# Altium footprint library Transistor_Power_Module.PcbLib: 14 footprints
Each footprint in its own frame and in the unit in brackets; x right, y up, seen from the top. Pads: shape width x height; smd on the part's side, far side on the other; paste and mask are expansions set on the pad; w line width, h text height; cw(c..) or ccw(c..) is an arc to the next point about the centre after c.
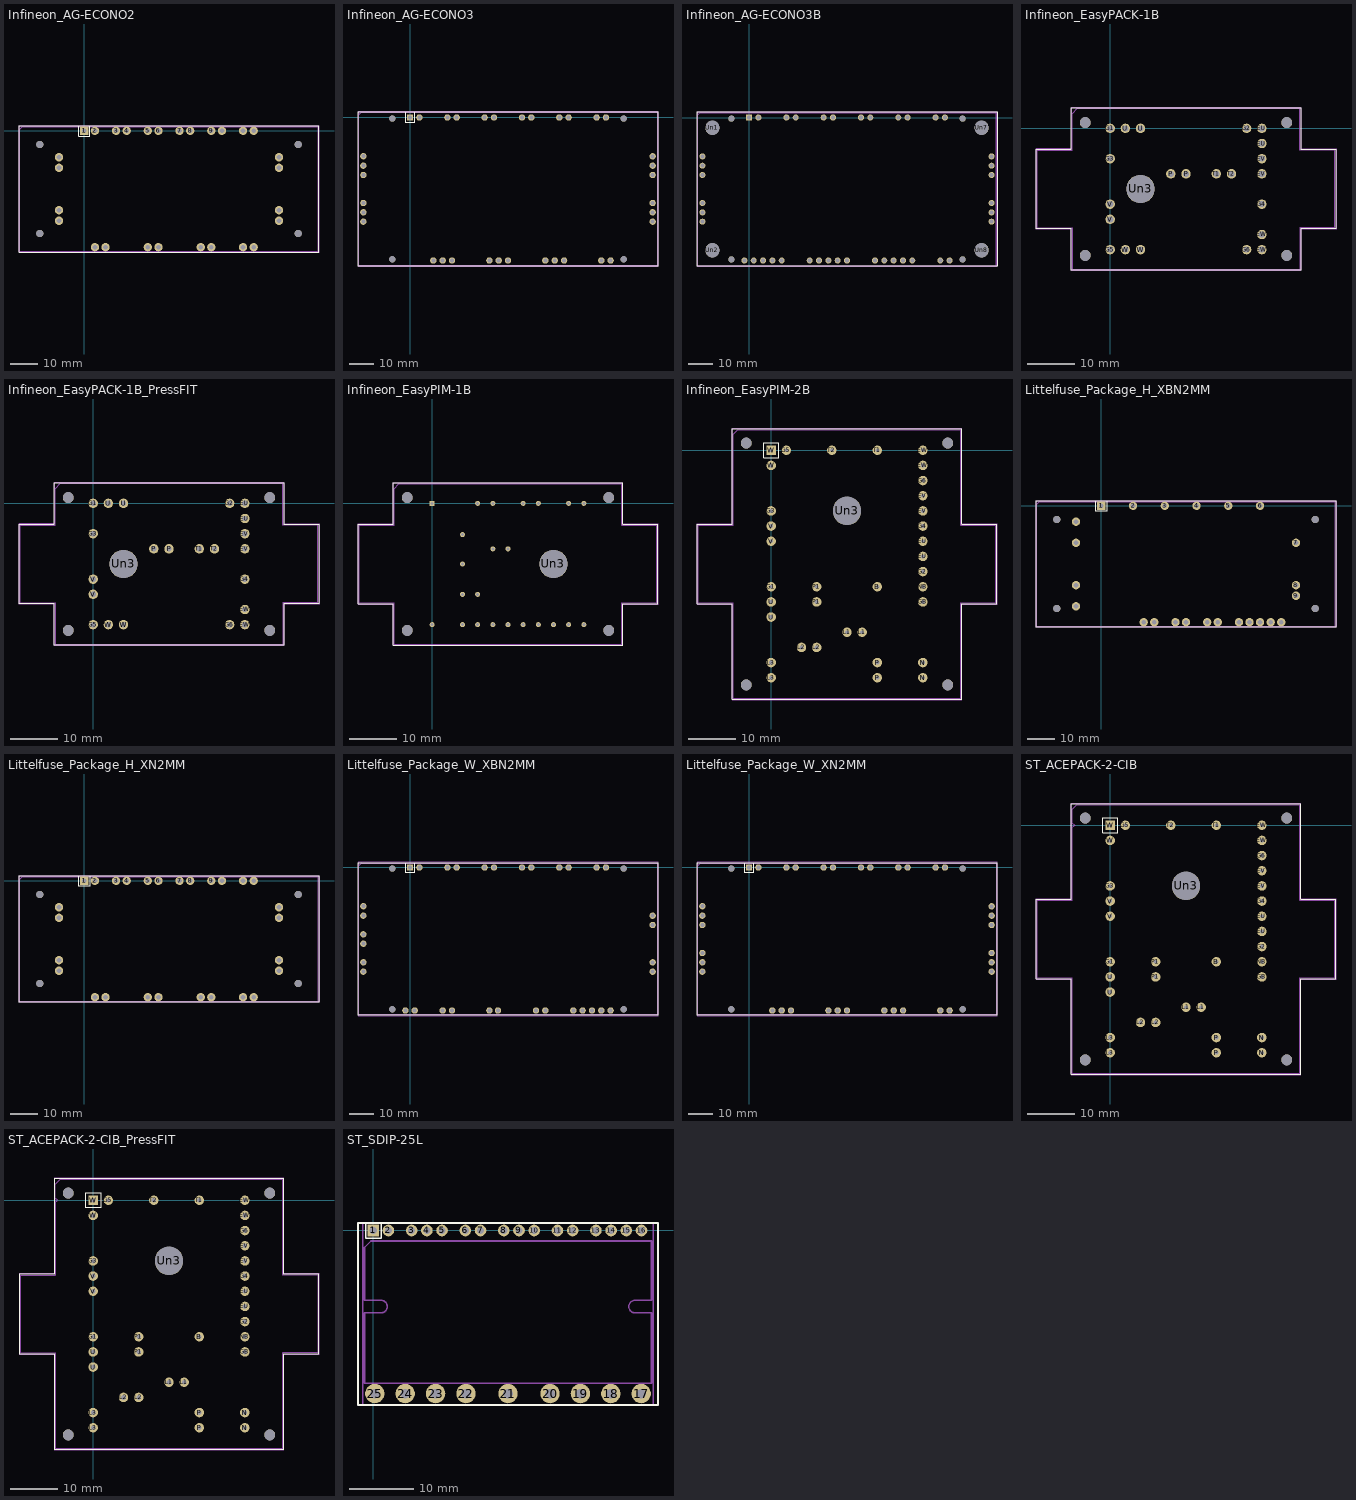
[diagram p0: the footprints below, top view; thin cyan lines are the x and y axes]

## Infineon_AG-ECONO2 [mm]
pads (32):
  rect 3x3 hole 1.7: 1(0,0)
  round 3 hole 1.7: 2(3.81,0) 3(11.43,0) 4(15.24,0) 5(22.86,0) 6(26.67,0) 7(34.29,0) 8(38.1,0) 9(45.72,0) 10(49.53,0) 11(57.15,0) 12(60.96,0) 13(70.08,-9.52) 14(70.08,-13.33) 15(70.08,-28.57) 16(70.08,-32.38) 17(60.96,-41.9) 18(57.15,-41.9) 19(45.72,-41.9) 20(41.91,-41.9) 21(26.67,-41.9) 22(22.86,-41.9) 23(7.62,-41.9) 24(3.81,-41.9) 25(-9.12,-32.38) 26(-9.12,-28.57) 27(-9.12,-13.33) 28(-9.12,-9.52)
  round 2.6 hole 2.6: Un1(-16.02,-4.95) Un2(-16.02,-36.95) Un3(76.98,-4.95) Un4(76.98,-36.95)
F.SilkS:
  lines w0.254: -2,1.75 -2,-2 2,-2 2,-1.75 2,1.75 ; -23.47,-43.65 84.43,-43.65 84.43,1.75 -23.47,1.75 -23.47,-43.65
B.SilkS:
  drawing of 320 lines, arcs and shapes, not listed
F.Fab:
  lines w0.254: -23.27,-43.45 84.23,-43.45 84.23,1.55 -22.27,1.55 -23.27,0.55 -23.27,-43.45
  text "'.Designator'" at 26.053,-20.14 h1
F.CrtYd:
  lines w0.254: -23.52,-43.7 84.48,-43.7 84.48,1.8 -23.52,1.8 -23.52,-43.7

## Infineon_AG-ECONO3 [mm]
pads (39):
  rect 2.6x2.6 hole 1.6: 1(0,0)
  round 2.6 hole 1.6: 2(3.81,0) 3(15.24,0) 4(19.05,0) 5(30.48,0) 6(34.29,0) 7(45.72,0) 8(49.53,0) 9(60.96,0) 10(64.77,0) 11(76.2,0) 12(80.01,0) 13(99.07,-15.86) 14(99.07,-19.67) 15(99.07,-23.48) 16(99.07,-34.91) 17(99.07,-38.72) 18(99.07,-42.53) 19(81.92,-58.4) 20(78.11,-58.4) 21(62.91,-58.4) 22(59.11,-58.4) 23(55.25,-58.4) 24(40.01,-58.4) 25(36.21,-58.4) 26(32.39,-58.4) 27(17.15,-58.4) 28(13.34,-58.4) 29(9.51,-58.4) 30(-19.05,-42.53) 31(-19.05,-38.72) 32(-19.05,-34.91) 33(-19.05,-23.48) 34(-19.05,-19.67) 35(-19.05,-15.8)
  round 2.5 hole 2.5: Un1(-7.24,-0.45) Un2(-7.24,-57.91) Un3(87.26,-0.45) Un4(87.26,-57.91)
F.SilkS:
  lines w0.254: -2,2 -2,-2 2,-2 2,2 ; -21.19,-60.65 -21.19,2.25 101.21,2.25 101.21,-60.65 -21.19,-60.65
F.Fab:
  lines w0.254: -20.99,-60.45 -20.99,1.05 -19.99,2.05 101.01,2.05 101.01,-60.45 -20.99,-60.45
  text "'.Designator'" at 35.963,-31.34 h1
F.CrtYd:
  lines w0.254: -21.24,-60.7 -21.24,2.3 101.26,2.3 101.26,-60.7 -21.24,-60.7

## Infineon_AG-ECONO3B [mm]
pads (49):
  rect 2.46x2.46 hole 1.64: 1(0,0)
  round 2.46 hole 1.64: 2(3.81,0) 3(15.24,0) 4(19.05,0) 5(30.48,0) 6(34.29,0) 7(45.72,0) 8(49.53,0) 9(60.96,0) 10(64.77,0) 11(76.2,0) 12(80.01,0) 13(99.06,-15.875) 14(99.06,-19.685) 15(99.06,-23.495) 16(99.06,-34.925) 17(99.06,-38.735) 18(99.06,-42.545) 19(81.915,-58.42) 20(78.105,-58.42) 21(66.675,-58.42) 22(62.865,-58.42) 23(59.055,-58.42) 24(55.245,-58.42) 25(51.435,-58.42) 26(40.005,-58.42) 27(36.195,-58.42) 28(32.385,-58.42) 29(28.575,-58.42) 30(24.765,-58.42) 31(13.335,-58.42) 32(9.525,-58.42) 33(5.715,-58.42) 34(1.905,-58.42) 35(-1.905,-58.42) 36(-19.05,-42.545) 37(-19.05,-38.735) 38(-19.05,-34.925) 39(-19.05,-23.495) 40(-19.05,-19.685) 41(-19.05,-15.875)
  round 5.8 hole 5.8: Un1(-14.995,-4.21) Un2(-14.995,-54.21) Un7(95.005,-4.21) Un8(95.005,-54.21)
  round 2.5 hole 2.5: Un3(-7.245,-0.46) Un4(-7.245,-57.96) Un5(87.255,-0.46) Un6(87.255,-57.96)
F.SilkS:
  lines w0.254: -21.266,-60.712 -21.266,2.317 101.276,2.292 101.276,-60.712 -21.266,-60.712
F.Fab:
  lines w0.254: -20.995,-60.46 -20.995,1.04 -19.995,2.04 101.005,2.04 101.005,-60.46 -20.995,-60.46
  text "'.Designator'" at 32.315,-30.435 h1
F.CrtYd:
  lines w0.254: -21.25,-60.7 -21.25,2.3 101.26,2.28 101.26,-60.7 -21.25,-60.7

## Infineon_EasyPACK-1B [mm]
pads (27):
  round 2 hole 1.3: EU(32,-3.2) EU(32,0) EV(32,-9.6) EV(32,-6.4) EW(32,-25.6) EW(32,-22.4) G1(0,0) G2(28.8,0) G3(0,-6.4) G4(32,-16) G5(0,-25.6) G6(28.8,-25.6) P(12.8,-9.6) P(16,-9.6) T1(22.4,-9.6) T2(25.6,-9.6) U(3.2,0) U(6.4,0) V(0,-19.2) V(0,-16) W(3.2,-25.6) W(6.4,-25.6)
  round 2.3 hole 2.3: Un1(-5.25,1.2) Un2(-5.25,-26.8) Un4(37.25,1.2) Un5(37.25,-26.8)
  round 6 hole 6: Un3(6.4,-12.8)
F.SilkS:
  lines w0.254: -15.6,-21.2 -15.6,-4.4 -8.2,-4.4 -8.2,4.3 40.2,4.3 40.2,-4.4 47.6,-4.4 47.6,-21.2 40.2,-21.2 40.2,-29.9 -8.2,-29.9 -8.2,-21.2 -15.6,-21.2
B.SilkS:
  circle w0.254: c6.4,-12.8 r4
F.Fab:
  lines w0.254: -15.4,-21 -15.4,-4.6 -8,-4.6 -8,3.1 -7,4.1 40,4.1 40,-4.6 47.4,-4.6 47.4,-21 40,-21 40,-29.7 -8,-29.7 -8,-21 -15.4,-21
  text "'.Designator'" at 11.953,-14.94 h1
F.CrtYd:
  lines w0.254: -15.65,-21.25 -15.65,-4.35 -8.25,-4.35 -8.25,4.35 40.25,4.35 40.25,-4.35 47.65,-4.35 47.65,-21.25 40.25,-21.25 40.25,-29.95 -8.25,-29.95 -8.25,-21.25 -15.65,-21.25

## Infineon_EasyPACK-1B_PressFIT [mm]
pads (27):
  round 2 hole 1.15: EU(32,-3.2) EU(32,0) EV(32,-9.6) EV(32,-6.4) EW(32,-25.6) EW(32,-22.4) G1(0,0) G2(28.8,0) G3(0,-6.4) G4(32,-16) G5(0,-25.6) G6(28.8,-25.6) P(12.8,-9.6) P(16,-9.6) T1(22.4,-9.6) T2(25.6,-9.6) U(3.2,0) U(6.4,0) V(0,-19.2) V(0,-16) W(3.2,-25.6) W(6.4,-25.6)
  round 2.3 hole 2.3: Un1(-5.25,1.2) Un2(-5.25,-26.8) Un4(37.25,1.2) Un5(37.25,-26.8)
  round 6 hole 6: Un3(6.4,-12.8)
F.SilkS:
  lines w0.254: -15.6,-21.2 -15.6,-4.4 -8.2,-4.4 -8.2,4.3 40.2,4.3 40.2,-4.4 47.6,-4.4 47.6,-21.2 40.2,-21.2 40.2,-29.9 -8.2,-29.9 -8.2,-21.2 -15.6,-21.2
B.SilkS:
  circle w0.254: c6.4,-12.8 r4
F.Fab:
  lines w0.254: -15.4,-21 -15.4,-4.6 -8,-4.6 -8,3.1 -7,4.1 40,4.1 40,-4.6 47.4,-4.6 47.4,-21 40,-21 40,-29.7 -8,-29.7 -8,-21 -15.4,-21
  text "'.Designator'" at 11.953,-14.94 h1
F.CrtYd:
  lines w0.254: -15.65,-21.25 -15.65,-4.35 -8.25,-4.35 -8.25,4.35 40.25,4.35 40.25,-4.35 47.65,-4.35 47.65,-21.25 40.25,-21.25 40.25,-29.95 -8.25,-29.95 -8.25,-21.25 -15.65,-21.25

## Infineon_EasyPIM-1B [mm]
pads (28):
  round 1.06 hole 0.66: B(0,-25.6) EU(32,-25.6) EV(25.6,-25.6) EW(19.2,-25.6) G1(28.8,0) G2(28.8,-25.6) G3(19.2,0) G4(22.4,-25.6) G5(9.6,0) G6(16,-25.6) GB(9.6,-25.6) L2(6.4,-6.6) L3(6.4,-12.8) N(12.8,-25.6) NB(6.4,-25.6) P(6.4,-19.2) P1(9.6,-19.2) T1(12.8,-9.6) T2(16,-9.6) U(32,0) V(22.4,0) W(12.8,0)
  rect 1.06x1.06 hole 0.66: L1(0,0)
  round 2.3 hole 2.3: Un1(-5.25,1.2) Un2(-5.25,-26.8) Un4(37.25,1.2) Un5(37.25,-26.8)
  round 6 hole 6: Un3(25.6,-12.8)
F.SilkS:
  lines w0.254: -15.6,-21.2 -15.6,-4.4 -8.2,-4.4 -8.2,4.3 40.2,4.3 40.2,-4.4 47.6,-4.4 47.6,-21.2 40.2,-21.2 40.2,-29.9 -8.2,-29.9 -8.2,-21.2 -15.6,-21.2
B.SilkS:
  circle w0.254: c25.6,-12.8 r4
F.Fab:
  lines w0.254: -15.4,-21 -15.4,-4.6 -8,-4.6 -8,3.1 -7,4.1 40,4.1 40,-4.6 47.4,-4.6 47.4,-21 40,-21 40,-29.7 -8,-29.7 -8,-21 -15.4,-21
  text "'.Designator'" at 11.953,-12.34 h1
F.CrtYd:
  lines w0.254: -15.65,-21.25 -15.65,-4.35 -8.25,-4.35 -8.25,4.35 40.25,4.35 40.25,-4.35 47.65,-4.35 47.65,-21.25 40.25,-21.25 40.25,-29.95 -8.25,-29.95 -8.25,-21.25 -15.65,-21.25

## Infineon_EasyPIM-2B [mm]
pads (40):
  round 2 hole 0.84: B(22.4,-28.8) EU(32,-22.4) EU(32,-19.2) EV(32,-12.8) EV(32,-9.6) EW(32,-3.2) EW(32,0) G1(0,-28.8) G2(32,-25.6) G3(0,-12.8) G4(32,-16) G5(3.2,0) G6(32,-6.4) GB(32,-32) L1(16,-38.4) L1(19.2,-38.4) L2(6.4,-41.6) L2(9.6,-41.6) L3(0,-48) L3(0,-44.8) N(32,-48) N(32,-44.8) NB(32,-28.8) P(22.4,-48) P(22.4,-44.8) P1(9.6,-32) P1(9.6,-28.8) T1(22.4,0) T2(12.8,0) U(0,-35.2) U(0,-32) V(0,-19.2) V(0,-16) W(0,-3.2)
  round 2.3 hole 2.3: Un1(-5.25,1.5) Un2(-5.25,-49.5) Un4(37.25,1.5) Un5(37.25,-49.5)
  round 6 hole 6: Un3(16,-12.8)
  rect 2x2 hole 0.84: W(0,0)
F.SilkS:
  lines w0.254: -15.6,-32.4 -15.6,-15.6 -8.2,-15.6 -8.2,4.55 40.2,4.55 40.2,-15.6 47.6,-15.6 47.6,-32.4 40.2,-32.4 40.2,-52.55 -8.2,-52.55 -8.2,-32.4 -15.6,-32.4 ; -1.6,-1.6 -1.6,1.6 1.6,1.6 1.6,-1.6 -1.6,-1.6
B.SilkS:
  circle w0.254: c16,-12.8 r4
  lines w0.254: -1.6,-1.5 -1.6,-1.6 -1,-1.6 ; -1.6,-1 -1.6,-0.5 ; -1.6,0 -1.6,0.5 ; -1.6,1 -1.6,1.6 -1.5,1.6 ; -1,1.6 -0.5,1.6 ; -0.5,-1.6 0,-1.6 ; 0,1.6 0.5,1.6 ; 0.5,-1.6 1,-1.6 ; 1,1.6 1.6,1.6 1.6,1.5 ; 1.5,-1.6 1.6,-1.6 1.6,-1 ; 1.6,-0.5 1.6,0 ; 1.6,0.5 1.6,1
F.Fab:
  lines w0.254: -15.4,-32.2 -15.4,-15.8 -8,-15.8 -8,3.35 -7,4.35 40,4.35 40,-15.8 47.4,-15.8 47.4,-32.2 40,-32.2 40,-52.35 -8,-52.35 -8,-32.2 -15.4,-32.2
  text "'.Designator'" at 11.953,-22.84 h1
F.CrtYd:
  lines w0.254: -15.65,-32.45 -15.65,-15.55 -8.25,-15.55 -8.25,4.6 40.25,4.6 40.25,-15.55 47.65,-15.55 47.65,-32.45 40.25,-32.45 40.25,-52.6 -8.25,-52.6 -8.25,-32.45 -15.65,-32.45
3D body "Infineon_EasyPIM-2B.step": height 12.5, standoff -3.5, extent -15.4,-52.35 47.4,4.35

## Littelfuse_Package_H_XBN2MM [mm]
pads (28):
  rect 3x3 hole 1.7: 1(0,0)
  round 3 hole 1.7: 2(11.43,0) 3(22.86,0) 4(34.29,0) 5(45.72,0) 6(57.15,0) 7(70.08,-13.33) 8(70.08,-28.57) 9(70.08,-32.38) 10(64.77,-41.9) 11(60.96,-41.9) 12(57.15,-41.9) 13(53.34,-41.9) 14(49.53,-41.9) 15(41.91,-41.9) 16(38.1,-41.9) 17(30.48,-41.9) 18(26.67,-41.9) 19(19.05,-41.9) 20(15.24,-41.9) 21(-9.12,-36.19) 22(-9.12,-28.57) 23(-9.12,-13.33) 24(-9.12,-5.71)
  round 2.6 hole 2.6: Un1(-16.02,-4.95) Un2(-16.02,-36.95) Un3(76.98,-4.95) Un4(76.98,-36.95)
F.SilkS:
  lines w0.254: -2,1.75 -2,-2 2,-2 2,-1.75 2,1.75 ; -23.47,-43.65 -23.47,1.75 84.43,1.75 84.43,-43.65 -23.47,-43.65
B.SilkS:
  drawing of 320 lines, arcs and shapes, not listed
F.Fab:
  lines w0.254: -23.27,-43.45 -23.27,0.55 -22.27,1.55 84.23,1.55 84.23,-43.45 -23.27,-43.45
  text "'.Designator'" at 24.453,-19.89 h1
F.CrtYd:
  lines w0.254: -23.52,-43.7 -23.52,1.8 84.48,1.8 84.48,-43.7 -23.52,-43.7

## Littelfuse_Package_H_XN2MM [mm]
pads (32):
  rect 3x3 hole 1.7: 1(0,0)
  round 3 hole 1.7: 2(3.81,0) 3(11.43,0) 4(15.24,0) 5(22.86,0) 6(26.67,0) 7(34.29,0) 8(38.1,0) 9(45.72,0) 10(49.53,0) 11(57.15,0) 12(60.96,0) 13(70.08,-9.52) 14(70.08,-13.33) 15(70.08,-28.57) 16(70.08,-32.38) 17(60.96,-41.9) 18(57.15,-41.9) 19(45.72,-41.9) 20(41.91,-41.9) 21(26.67,-41.9) 22(22.86,-41.9) 23(7.62,-41.9) 24(3.81,-41.9) 25(-9.12,-32.38) 26(-9.12,-28.57) 27(-9.12,-13.33) 28(-9.12,-9.52)
  round 2.6 hole 2.6: Un1(-16.02,-4.95) Un2(-16.02,-36.95) Un3(76.98,-4.95) Un4(76.98,-36.95)
F.SilkS:
  lines w0.254: -2,1.75 -2,-2 2,-2 2,-1.75 2,1.75 ; -23.47,-43.65 -23.47,1.75 84.43,1.75 84.43,-43.65 -23.47,-43.65
B.SilkS:
  drawing of 320 lines, arcs and shapes, not listed
F.Fab:
  lines w0.254: -23.27,-43.45 -23.27,0.55 -22.27,1.55 84.23,1.55 84.23,-43.45 -23.27,-43.45
  text "'.Designator'" at 24.453,-20.34 h1
F.CrtYd:
  lines w0.254: -23.52,-43.7 -23.52,1.8 84.48,1.8 84.48,-43.7 -23.52,-43.7

## Littelfuse_Package_W_XBN2MM [mm]
pads (39):
  rect 2.6x2.6 hole 1.6: 1(0,0)
  round 2.6 hole 1.6: 1(3.81,0) 2(15.24,0) 2(19.05,0) 3(30.48,0) 3(34.29,0) 4(45.72,0) 4(49.53,0) 5(60.96,0) 5(64.77,0) 6(76.2,0) 6(80.01,0) 7(99.07,-23.49) 7(99.07,-19.68) 8(99.07,-38.73) 9(99.07,-42.54) 10(81.92,-58.4) 11(78.11,-58.4) 12(74.3,-58.4) 13(70.49,-58.4) 14(66.68,-58.4) 15(55.25,-58.4) 16(51.44,-58.4) 17(35.9,-58.4) 18(32.39,-58.4) 19(17.15,-58.4) 20(13.34,-58.4) 21(-1.9,-58.4) 21(1.91,-58.4) 22(-19.05,-42.53) 22(-19.05,-38.72) 23(-19.05,-31.11) 23(-19.05,-27.3) 24(-19.05,-19.67) 24(-19.05,-15.8)
  round 2.5 hole 2.5: Un1(-7.24,-0.45) Un2(-7.24,-57.91) Un3(87.26,-0.45) Un4(87.26,-57.91)
F.SilkS:
  lines w0.254: -2.02,1.99 -2.02,-2.01 1.98,-2.01 1.98,1.99 ; -21.19,-60.4 -21.19,2 101.21,2 101.21,-60.4 -21.19,-60.4
F.Fab:
  lines w0.254: -20.99,-60.2 -20.99,0.8 -19.99,1.8 101.01,1.8 101.01,-60.2 -20.99,-60.2
  text "'.Designator'" at 40.853,-28.84 h1
F.CrtYd:
  lines w0.254: -21.24,-60.45 -21.24,2.05 101.26,2.05 101.26,-60.45 -21.24,-60.45

## Littelfuse_Package_W_XN2MM [mm]
pads (39):
  rect 2.6x2.6 hole 1.6: 1(0,0)
  round 2.6 hole 1.6: 2(3.81,0) 3(15.24,0) 4(19.05,0) 5(30.48,0) 6(34.29,0) 7(45.72,0) 8(49.53,0) 9(60.96,0) 10(64.77,0) 11(76.2,0) 12(80.01,0) 13(99.07,-15.86) 14(99.07,-19.67) 15(99.07,-23.48) 16(99.07,-34.91) 17(99.07,-38.72) 18(99.07,-42.53) 19(81.92,-58.4) 20(78.11,-58.4) 21(62.91,-58.4) 22(59.11,-58.4) 23(55.25,-58.4) 24(40.01,-58.4) 25(36.21,-58.4) 26(32.39,-58.4) 27(17.15,-58.4) 28(13.34,-58.4) 29(9.51,-58.4) 30(-19.05,-42.53) 31(-19.05,-38.72) 32(-19.05,-34.91) 33(-19.05,-23.48) 34(-19.05,-19.67) 35(-19.05,-15.8)
  round 2.5 hole 2.5: Un1(-7.24,-0.45) Un2(-7.24,-57.91) Un3(87.26,-0.45) Un4(87.26,-57.91)
F.SilkS:
  lines w0.254: -2,2 -2,-2 2,-2 2,2 ; -21.19,-60.4 -21.19,2 101.21,2 101.21,-60.4 -21.19,-60.4
F.Fab:
  lines w0.254: -20.99,-60.2 -20.99,0.8 -19.99,1.8 101.01,1.8 101.01,-60.2 -20.99,-60.2
  text "'.Designator'" at 40.753,-28.04 h1
F.CrtYd:
  lines w0.254: -21.24,-60.45 -21.24,2.05 101.26,2.05 101.26,-60.45 -21.24,-60.45

## ST_ACEPACK-2-CIB [mm]
pads (40):
  round 2 hole 0.84: B(22.4,-28.8) EU(32,-22.4) EU(32,-19.2) EV(32,-12.8) EV(32,-9.6) EW(32,-3.2) EW(32,0) G1(0,-28.8) G2(32,-25.6) G3(0,-12.8) G4(32,-16) G5(3.2,0) G6(32,-6.4) GB(32,-32) L1(16,-38.4) L1(19.2,-38.4) L2(6.4,-41.6) L2(9.6,-41.6) L3(0,-48) L3(0,-44.8) N(32,-48) N(32,-44.8) NB(32,-28.8) P(22.4,-48) P(22.4,-44.8) P1(9.6,-32) P1(9.6,-28.8) T1(22.4,0) T2(12.8,0) U(0,-35.2) U(0,-32) V(0,-19.2) V(0,-16) W(0,-3.2)
  round 2.3 hole 2.3: Un1(-5.25,1.5) Un2(-5.25,-49.5) Un4(37.25,1.5) Un5(37.25,-49.5)
  round 6 hole 6: Un3(16,-12.8)
  rect 2x2 hole 0.84: W(0,0)
F.SilkS:
  lines w0.254: -15.6,-32.4 -15.6,-15.6 -8.2,-15.6 -8.2,4.55 40.2,4.55 40.2,-15.6 47.6,-15.6 47.6,-32.4 40.2,-32.4 40.2,-52.55 -8.2,-52.55 -8.2,-32.4 -15.6,-32.4 ; -1.6,-1.6 -1.6,1.6 1.6,1.6 1.6,-1.6 -1.6,-1.6
B.SilkS:
  circle w0.254: c16,-12.8 r4
  lines w0.254: -1.6,-1.5 -1.6,-1.6 -1,-1.6 ; -1.6,-1 -1.6,-0.5 ; -1.6,0 -1.6,0.5 ; -1.6,1 -1.6,1.6 -1.5,1.6 ; -1,1.6 -0.5,1.6 ; -0.5,-1.6 0,-1.6 ; 0,1.6 0.5,1.6 ; 0.5,-1.6 1,-1.6 ; 1,1.6 1.6,1.6 1.6,1.5 ; 1.5,-1.6 1.6,-1.6 1.6,-1 ; 1.6,-0.5 1.6,0 ; 1.6,0.5 1.6,1
F.Fab:
  lines w0.254: -8,-0.4 -8,-15.8 -15.4,-15.8 -15.4,-32.2 -8,-32.2 -8,-52.35 40,-52.35 40,-32.2 47.4,-32.2 47.4,-15.8 40,-15.8 40,4.35 -7,4.35 -8,3.35 -8,0.4 ; -8.15,-0.5 -8.15,0.5 -7.5,0 -8.15,-0.5
  text "'.Designator'" at 11.953,-22.84 h1
F.CrtYd:
  lines w0.254: -15.65,-32.45 -15.65,-15.55 -8.25,-15.55 -8.25,4.6 40.25,4.6 40.25,-15.55 47.65,-15.55 47.65,-32.45 40.25,-32.45 40.25,-52.6 -8.25,-52.6 -8.25,-32.45 -15.65,-32.45
3D body "ST_ACEPACK-2-CIB.step": height 12.5, standoff -3.5, extent -15.4,-52.35 47.4,4.35

## ST_ACEPACK-2-CIB_PressFIT [mm]
pads (40):
  round 2 hole 1: B(22.4,-28.8) EU(32,-22.4) EU(32,-19.2) EV(32,-12.8) EV(32,-9.6) EW(32,-3.2) EW(32,0) G1(0,-28.8) G2(32,-25.6) G3(0,-12.8) G4(32,-16) G5(3.2,0) G6(32,-6.4) GB(32,-32) L1(16,-38.4) L1(19.2,-38.4) L2(6.4,-41.6) L2(9.6,-41.6) L3(0,-48) L3(0,-44.8) N(32,-48) N(32,-44.8) NB(32,-28.8) P(22.4,-48) P(22.4,-44.8) P1(9.6,-32) P1(9.6,-28.8) T1(22.4,0) T2(12.8,0) U(0,-35.2) U(0,-32) V(0,-19.2) V(0,-16) W(0,-3.2)
  round 2.3 hole 2.3: Un1(-5.25,1.5) Un2(-5.25,-49.5) Un4(37.25,1.5) Un5(37.25,-49.5)
  round 6 hole 6: Un3(16,-12.8)
  rect 2x2 hole 1: W(0,0)
F.SilkS:
  lines w0.254: -15.6,-32.4 -15.6,-15.6 -8.2,-15.6 -8.2,4.55 40.2,4.55 40.2,-15.6 47.6,-15.6 47.6,-32.4 40.2,-32.4 40.2,-52.55 -8.2,-52.55 -8.2,-32.4 -15.6,-32.4 ; -1.6,-1.6 -1.6,1.6 1.6,1.6 1.6,-1.6 -1.6,-1.6
B.SilkS:
  circle w0.254: c16,-12.8 r4
  lines w0.254: -1.6,-1.5 -1.6,-1.6 -1,-1.6 ; -1.6,-1 -1.6,-0.5 ; -1.6,0 -1.6,0.5 ; -1.6,1 -1.6,1.6 -1.5,1.6 ; -1,1.6 -0.5,1.6 ; -0.5,-1.6 0,-1.6 ; 0,1.6 0.5,1.6 ; 0.5,-1.6 1,-1.6 ; 1,1.6 1.6,1.6 1.6,1.5 ; 1.5,-1.6 1.6,-1.6 1.6,-1 ; 1.6,-0.5 1.6,0 ; 1.6,0.5 1.6,1
F.Fab:
  lines w0.254: -8,-0.4 -8,-15.8 -15.4,-15.8 -15.4,-32.2 -8,-32.2 -8,-52.35 40,-52.35 40,-32.2 47.4,-32.2 47.4,-15.8 40,-15.8 40,4.35 -7,4.35 -8,3.35 -8,0.4 ; -8.15,-0.5 -8.15,0.5 -7.5,0 -8.15,-0.5
  text "'.Designator'" at 11.953,-22.84 h1
F.CrtYd:
  lines w0.254: -15.65,-32.45 -15.65,-15.55 -8.25,-15.55 -8.25,4.6 40.25,4.6 40.25,-15.55 47.65,-15.55 47.65,-32.45 40.25,-32.45 40.25,-52.6 -8.25,-52.6 -8.25,-32.45 -15.65,-32.45

## ST_SDIP-25L [mm]
pads (25):
  rect 1.8x1.8 hole 1.1: 1(0,0)
  round 1.8 hole 1.1: 2(2.35,0) 3(5.95,0) 4(8.3,0) 5(10.65,0) 6(14.25,0) 7(16.6,0) 8(20.2,0) 9(22.55,0) 10(24.9,0) 11(28.5,0) 12(30.85,0) 13(34.45,0) 14(36.8,0) 15(39.15,0) 16(41.5,0)
  round 3 hole 1.5: 17(41.45,-25.23) 18(36.75,-25.23) 19(32.05,-25.23) 20(27.35,-25.23) 21(20.85,-25.23) 22(14.35,-25.23) 23(9.65,-25.23) 24(4.95,-25.23) 25(0.25,-25.23)
F.SilkS:
  lines w0.254: -1.15,1.16 -1.15,-1.115 -1.15,-1.215 1.25,-1.215 1.25,1.16 ; -2.35,-26.99 44.05,-26.99 44.05,1.16 -2.35,1.16 -2.35,-26.99
F.Fab:
  lines w0.254: -1.35,-23.615 43.05,-23.615 43.05,-12.745 40.5,-12.745 cw(c40.5,-11.77) 40.5,-10.795 43.05,-10.795 43.05,-1.615 -0.35,-1.615 -1.35,-2.62 -1.35,-10.795 1.2,-10.795 cw(c1.2,-11.77) 1.2,-12.745 -1.35,-12.745 -1.35,-23.615
  text "'.Designator'" at 18.553,-11.64 h1
F.CrtYd:
  lines w0.254: -1.6,-26.98 43.3,-26.98 43.3,1.15 -1.6,1.15 -1.6,-26.98
3D body "ST_SDIP-25L.step": height 6.75, standoff -6.2, extent -1.357,-25.505 43.052,0.25